# Altium schematic symbol library SN65LVDT41PW.SchLib: 1 symbol
Pins are listed as number, name and electrical type; pins without a type are passive.

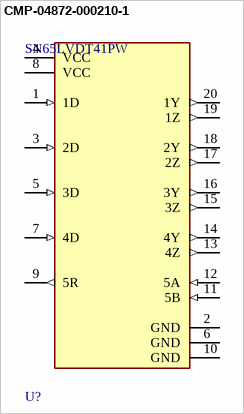
[diagram p0: symbol CMP-04872-000210-1]

## CMP-04872-000210-1
designator U?, comment SN65LVDT41PW
IC TRANSCEIVER HALF 4/1 20TSSOP; Number of Transmitters: 4; Turn-On Delay Time: 3.8ns; Number of Transceivers: 1; Max Supply Current: 35mA; Max Supply Voltage: 3.6V; Data Rate: 125Mbps; Min Supply Voltage: 3V; Logic Function: Buffer; Power Dissipation: 774mW; Operating Supply Voltage: 3.3V; Output Voltage: 2.4V; Max Operating Temperature: 85°C; Package Quantity: 70; Packaging: Rail/Tube; Propagation Delay: 3.8ns; Min Operating Temperature: -40°C; Number of Receivers: 4; REACH SVHC: No SVHC; Weight: 0.002716oz; Height: 1.15mm; RoHS Compliant: Yes; Case/Package: TSSOP; Nominal Supply Current: 35mA; Number of Drivers: 1; Width: 4.4mm; Length: 6.5mm; Series: 65LVDT; Radiation Hardening: No; Supply Current: 35mA; Mount: Surface Mount; Lead Free: Lead Free; Number of Pins: 20; Operating Supply Current: 35mA; Number of Elements: 1
footprint FP-PW0020A-IPC_C
footprint FP-PW0020A-MFG
footprint FP-PW0020A-IPC_B
footprint FP-PW0020A-IPC_A
pins: 1 1D (in), 2 GND (power), 3 2D (in), 4 VCC (power), 5 3D (in), 6 GND (power), 7 4D (in), 8 VCC (power), 9 5R (out), 10 GND (power), 11 5B (in), 12 5A (in), 13 4Z (out), 14 4Y (out), 15 3Z (out), 16 3Y (out), 17 2Z (out), 18 2Y (out), 19 1Z (out), 20 1Y (out)